# Altium footprint library L24.PcbLib: 7 footprints
Each footprint in its own frame and in the unit in brackets; x right, y up, seen from the top. Pads: shape width x height; smd on the part's side, far side on the other; paste and mask are expansions set on the pad; w line width, h text height; cw(c..) or ccw(c..) is an arc to the next point about the centre after c.
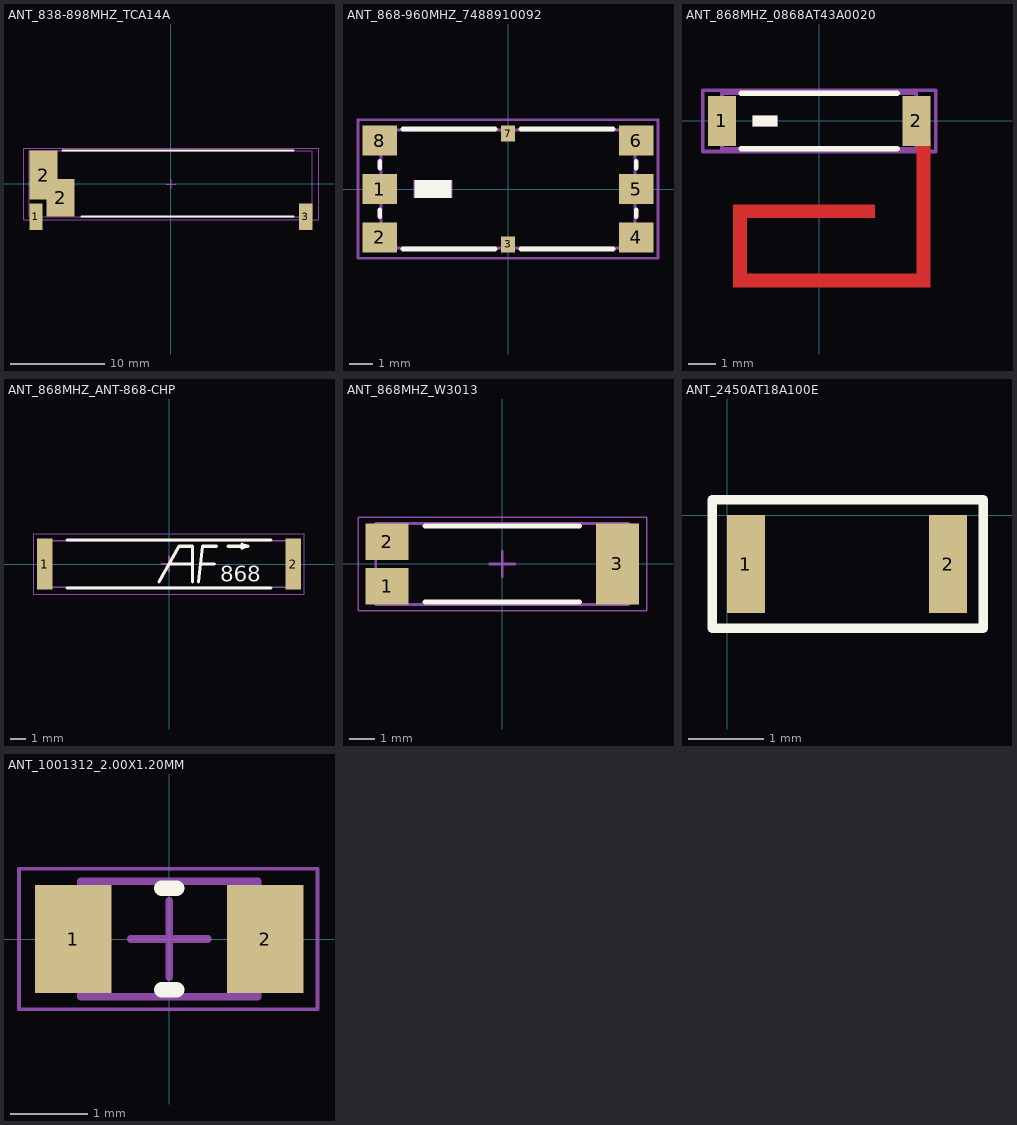
[diagram p0: the footprints below, top view; thin cyan lines are the x and y axes]

## ANT_838-898MHZ_TCA14A [mm] "Chip Antenna, 3-Leads, Body 30,00x7,00mm"
height 1.8
pads (4):
  rect 1.4x2.8 smd: 1(-14.3,-3.5) 3(14.3,-3.5)
  rect 3x5.2 smd: 2(-13.5,0.9)
  rect 3x4 smd: 2(-11.7,-1.5)
Top Overlay:
  lines w0.2: -11.5,3.5 13,3.5 ; -9.5,-3.5 13,-3.5
Mechanical 13:
  lines w0.1: -15,-3.5 -15,3.5 15,3.5 15,-3.5 -15,-3.5
Mechanical 15:
  lines w0.05: -15.619,-3.843 -15.619,3.757 15.681,3.757 15.681,-3.843 -15.619,-3.843
  lines w0.1: -0.469,-0.043 0.531,-0.043 ; 0.031,-0.543 0.031,0.457
Mechanical 17:
  text "'.Designator'" at -10.2,-3.1 h0.51
Mechanical 19:
  text "'.Comment'" at -10.2,-3.1 h0.51
3D body: height 1.8, standoff 0, extent -13.6,-3.5 13.5,3.5
3D body: height 1.8, standoff 0, extent -15,-3.5 -13.6,3.5
3D body: height 1.8, standoff 0, extent 13.5,-3.5 15,3.5

## ANT_868-960MHZ_7488910092 [mm]
pads (8):
  rect 1.5x1.3 smd: 1(-5.55,0) 2(-5.55,-2.1) 4(5.55,-2.1) 5(5.55,0) 6(5.55,2.1) 8(-5.55,2.1)
  rect 0.6x0.7 smd: 3(0,-2.4) 7(0,2.4)
Top Overlay:
  rectangle: -4.05,-0.4 -2.45,0.4
  lines w0.2: -5.55,-1.2 -5.55,-0.9 ; -5.55,0.9 -5.55,1.2 ; -4.55,-2.6 -0.55,-2.6 ; -4.55,2.6 -0.55,2.6 ; 0.55,-2.6 4.55,-2.6 ; 0.55,2.6 4.55,2.6 ; 5.55,-1.2 5.55,-0.9 ; 5.55,0.9 5.55,1.2
Mechanical 13:
  lines w0.127: -5.5,-2.55 -5.5,2.55 5.5,2.55 5.5,-2.55 -5.5,-2.55
Mechanical 15:
  rectangle: -4.1,-0.4 -2.4,0.4
  lines w0.127: -6.5,-3 -6.5,3 6.5,3 6.5,-3 -6.5,-3
Mechanical 17:
  text ".Designator" at -0.8,-0.6 h1.27
Mechanical 19:
  text "'.Comment'" at -1.626,-0.584 h1.27
3D body "45797.stp": height 1.5, standoff 0, extent -5.5,-2.55 5.5,2.55

## ANT_868MHZ_0868AT43A0020 [mm]
pads (2):
  rect 1x1.8 smd: 1(-3.5,0) 2(3.5,0)
Top Layer:
  region: 2,-3 -3.1,-3 -3.1,-3.5 2,-3.5
  region: -2.6,-6 -2.6,-3 -3.1,-3 -3.1,-6
  region: 4,-5.5 -3.1,-5.5 -3.1,-6 4,-6
  region: 3.5,-0.7 3.5,-6 4,-6 4,-0.7
Top Overlay:
  rectangle: -2.4,-0.2 -1.5,0.2
  lines w0.2: -2.8,-1 2.8,-1 ; -2.8,1 2.8,1
Mechanical 13:
  lines w0.127: -3.5,-1 -3.5,1 3.5,1 3.5,-1 -3.5,-1
Mechanical 15:
  rectangle: -2.4,-0.2 -1.5,0.2
  lines w0.127: -4.2,-1.1 4.2,-1.1 4.2,1.1 -4.2,1.1 -4.2,-1.1
  text ".Designator" at -0.5,-0.5 h1.02
3D body "User Library-0868AT43A0020.step": height 0.8, standoff 0, extent -3.5,-1 3.5,1

## ANT_868MHZ_ANT-868-CHP [mil]
height 66.93
pads (2):
  rect 40x130 smd: 1(-315,0) 2(315,0)
Top Overlay:
  lines w7.87: -257.87,-61.06 257.87,-61.06 ; -257.87,61.06 257.87,61.06 ; -25,-45 25,45 60,45 60,-45 ; 0,0 60,0 ; 75,-45 85,45 120,45 ; 80,0 115,0 ; 150,45 200,45 ; 200,45 185,50 185,40 200,45
  text "868" at 130,-45 h40
Mechanical 13:
  lines w3.94: -314.96,-59.06 314.96,-59.06 314.96,59.06 -314.96,59.06 -314.96,-59.06
Mechanical 15:
  lines w1.97: -342.52,-76.77 342.52,-76.77 342.52,76.77 -342.52,76.77 -342.52,-76.77
  lines w3.94: -19.68,0 19.68,0 ; 0,-19.68 0,19.68
3D body: height 66.93, standoff 0, extent 275.59,-59.06 314.96,59.06
3D body: height 66.93, standoff 0, extent -314.96,-59.06 -275.59,59.06
3D body: height 66.93, standoff 0, extent -275.59,-59.06 275.59,59.06

## ANT_868MHZ_W3013 [mm]
height 4
pads (3):
  rect 1.7x1.45 smd: 1(-4.55,-0.875) 2(-4.55,0.875)
  rect 1.7x3.2 smd: 3(4.55,0)
Top Overlay:
  lines w0.2: -3.05,-1.5 3.05,-1.5 ; -3.05,1.5 3.05,1.5
Mechanical 13:
  lines w0.1: -5,-1.6 -5,1.6 5,1.6 5,-1.6 -5,-1.6
Mechanical 15:
  lines w0.05: -5.7,-1.85 -5.7,1.85 5.7,1.85 5.7,-1.85 -5.7,-1.85
  lines w0.1: -0.5,0 0.5,0 ; 0,-0.5 0,0.5
3D body: height 4, standoff 0, extent -3.5,-1.6 3.5,1.6
3D body: height 4, standoff 0, extent -5,-1.6 -3.5,1.6
3D body: height 4, standoff 0, extent 3.5,-1.6 5,1.6

## ANT_2450AT18A100E [mm] "BLE Antenna"
pads (2):
  rect 0.5x1.3 smd: 1(0.25,-0.65) 2(2.93,-0.65)
Top Overlay:
  lines w0.127: -0.2,-1.5 3.4,-1.5 3.4,0.2 -0.2,0.2 -0.2,-1.5

## ANT_1001312_2.00X1.20MM [mm] "Embedded 2.4GHz ANTENNA, Part No. 1001312, 2-Leads, Body 2.00x1.20mm"
height 0.75
pads (2):
  rect 1x1.4 smd: 1(-1.25,0) 2(1.25,0)
Top Overlay:
  lines w0.2: -0.1,-0.66 0.1,-0.66 ; -0.1,0.66 0.1,0.66
Mechanical 13:
  lines w0.1: -1.15,-0.75 1.15,-0.75 1.15,0.75 -1.15,0.75 -1.15,-0.75
Mechanical 15:
  lines w0.05: -1.956,-0.914 1.93,-0.914 1.93,0.914 -1.956,0.914 -1.956,-0.914
  lines w0.1: -0.5,0 0.5,0 ; 0,-0.5 0,0.5
Mechanical 17:
  text "'.Designator'" at -1.6,0.025 h0.25
Mechanical 19:
  text "'.Comment'" at -1.27,0 h0.25
3D body: height 0.75, standoff 0, extent 0.75,-0.75 1.15,0.75
3D body: height 0.75, standoff 0, extent -1.15,-0.75 -0.75,0.75
3D body: height 0.75, standoff 0, extent -0.75,-0.75 0.75,0.75